# Altium schematic symbol library B30MA08B.Schlib: 1 symbol
Pins are listed as number, name and electrical type; pins without a type are passive.

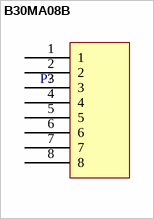
[diagram p0: symbol B30MA08B]

## B30MA08B
designator P?
8 Pin Battery male connector
pins: 1, 2, 3, 4, 5, 6, 7, 8